# Altium schematic symbol library fuse_and_holders.SchLib: 3 symbols
Pins are listed as number, name and electrical type; pins without a type are passive.

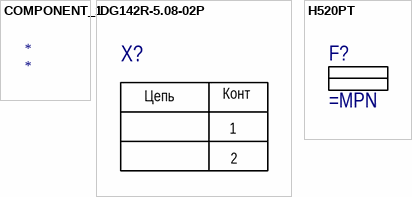
[diagram p0: symbols COMPONENT_1 to H520PT]

## COMPONENT_1
designator *

## DG142R-5.08-02P
designator X?
pins: 1, 2 "1"
text: Цепь; Конт

## H520PT
designator F?
pins: 1, 2 "1"